# EAGLE library part M24C* (library SCX3)
16 Kbit, 8 Kbit, 4 Kbit, 2 Kbit and 1 Kbit serial I²C bus EEPROM
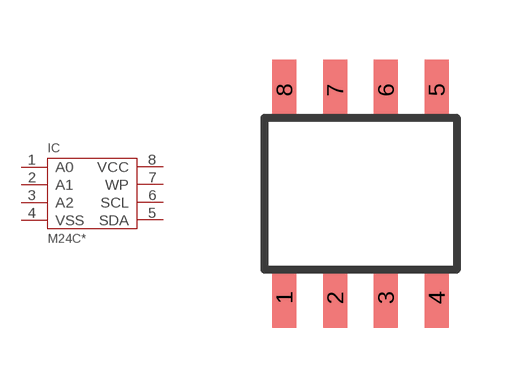
[diagram p13: symbol with the pads of SO8; footprint SO8]

Designator prefix IC

## M24C01, M24C02, M24C04, M24C08, M24C16  [SO8]
1  A0
2  A1
3  A2
4  VSS  pwr
5  SDA
6  SCL
7  WP
8  VCC  pwr

## Footprint SO8 (pad centres in mm)
SMALL OUTLINE INTEGRATED CIRCUIT SOP-8L Source: http://www.diodes.com/datasheets/ds31262.pdf
smd 0.6 x 1.5: 1 -1.905,-2.6; 2 -0.635,-2.6; 3 0.635,-2.6; 4 1.905,-2.6; 5 1.905,2.6; 6 0.635,2.6; 7 -0.635,2.6; 8 -1.905,2.6